# EAGLE library part LA4268 (library Audio-Power-amlifier V.2.0)
The LA4268 is a SANYO 10 W power amplifier intended for televisions. This IC has a series of pin compatible monaural and 2- channel power amplifiers, thus allows the end product to use a common circuit boad.
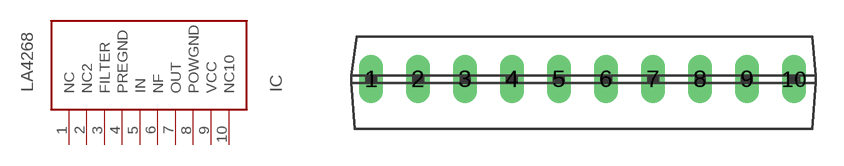
[diagram p98: symbol with the pads of HSIP010-P-0000B-2,54; footprint HSIP010-P-0000B-2,54]

Designator prefix IC

## LA42683248-SIP10HD  [HSIP010-P-0000B-2,54]
1  NC  nc
2  NC2  nc
3  FILTER
4  PREGND  pwr
5  IN  in
6  NF
7  OUT  out
8  POWGND  pwr
9  VCC  pwr
10  NC10  nc

## Footprint HSIP010-P-0000B-2,54 (pad centres in mm)
drill 0.8 long: 1 -11.43,0; 2 -8.89,0; 3 -6.35,0; 4 -3.81,0; 5 -1.27,0; 6 1.27,0; 7 3.81,0; 8 6.35,0; 9 8.89,0; 10 11.43,0